# Altium footprint library SamacSys.PcbLib: 89 footprints (part 5 of 6)
Each footprint in its own frame and in the unit in brackets; x right, y up, seen from the top. Pads: shape width x height; smd on the part's side, far side on the other; paste and mask are expansions set on the pad; w line width, h text height; cw(c..) or ccw(c..) is an arc to the next point about the centre after c.
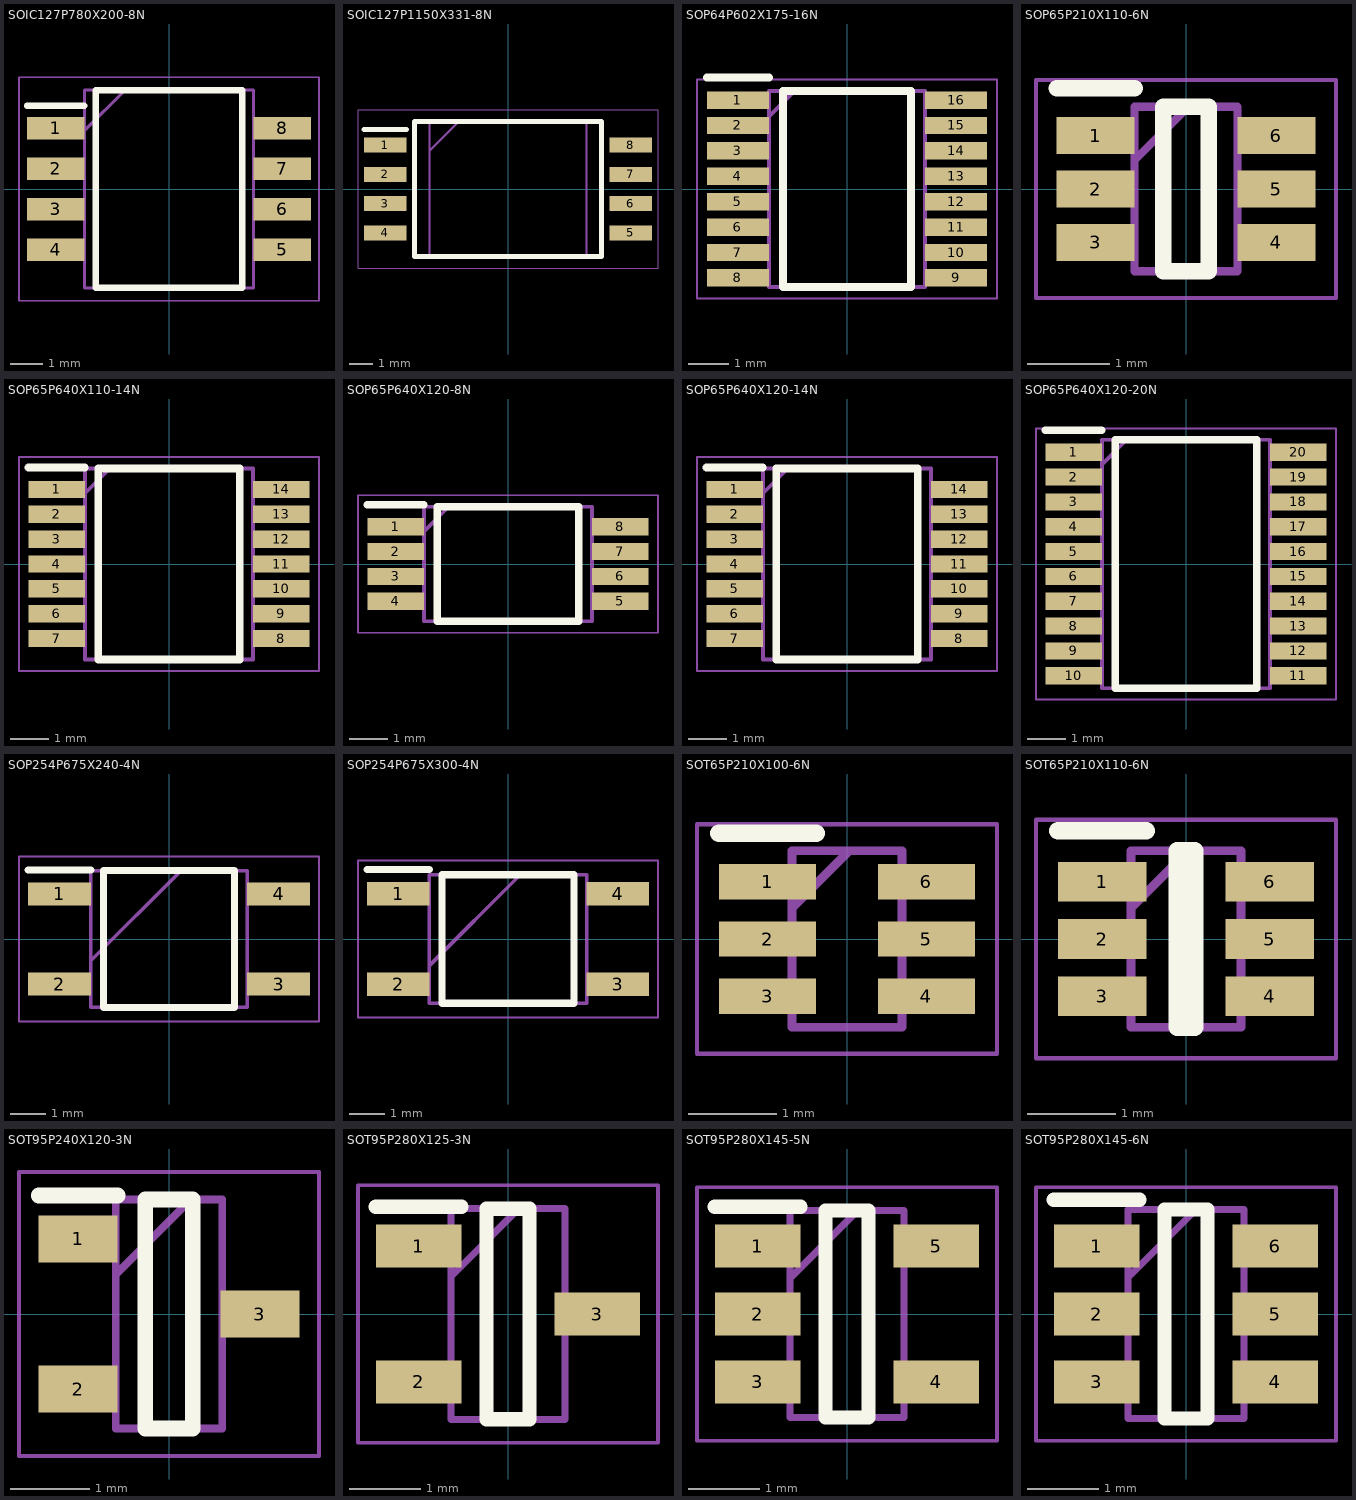
[diagram p4: the footprints below, top view; thin cyan lines are the x and y axes]

## SOIC127P780X200-8N [mm]
pads (8):
  rect 1.8x0.7 smd: 1(-3.55,1.905) 2(-3.55,0.635) 3(-3.55,-0.635) 4(-3.55,-1.905) 5(3.55,-1.905) 6(3.55,-0.635) 7(3.55,0.635) 8(3.55,1.905)
Top Overlay:
  lines w0.2: -4.45,2.605 -2.65,2.605 ; -2.3,-3.1 -2.3,3.1 2.3,3.1 2.3,-3.1 -2.3,-3.1
Mechanical 13:
  lines w0.1: -2.65,1.83 -1.38,3.1 ; -2.65,-3.1 -2.65,3.1 2.65,3.1 2.65,-3.1 -2.65,-3.1
Mechanical 15:
  lines w0.05: -4.7,-3.5 -4.7,3.5 4.7,3.5 4.7,-3.5 -4.7,-3.5
3D body "LM393PS.stp": height 4.21, standoff -3.37, extent -4.102,-4.635 4.102,4.635

## SOIC127P1150X331-8N [mm]
pads (8):
  rect 1.85x0.65 smd: 1(-5.325,1.905) 2(-5.325,0.635) 3(-5.325,-0.635) 4(-5.325,-1.905) 5(5.325,-1.905) 6(5.325,-0.635) 7(5.325,0.635) 8(5.325,1.905)
Top Overlay:
  lines w0.2: -6.25,2.58 -4.4,2.58 ; -4.05,-2.925 -4.05,2.925 4.05,2.925 4.05,-2.925 -4.05,-2.925
Mechanical 13:
  lines w0.1: -3.404,1.655 -2.134,2.925 ; -3.404,-2.925 -3.404,2.925 3.404,2.925 3.404,-2.925 -3.404,-2.925
Mechanical 15:
  lines w0.05: -6.5,-3.425 -6.5,3.425 6.5,3.425 6.5,-3.425 -6.5,-3.425
3D body "ACPL-C79B-500E.stp": height 3.31, standoff 0, extent -5.75,-2.925 5.75,2.925

## SOP64P602X175-16N [mm]
pads (16):
  rect 1.55x0.435 smd: 1(-2.725,2.222) 2(-2.725,1.588) 3(-2.725,0.952) 4(-2.725,0.318) 5(-2.725,-0.318) 6(-2.725,-0.952) 7(-2.725,-1.588) 8(-2.725,-2.222) 9(2.725,-2.222) 10(2.725,-1.588) 11(2.725,-0.952) 12(2.725,-0.318) 13(2.725,0.318) 14(2.725,0.952) 15(2.725,1.588) 16(2.725,2.222)
Top Overlay:
  lines w0.2: -3.5,2.79 -1.95,2.79 ; -1.6,-2.445 -1.6,2.445 1.6,2.445 1.6,-2.445 -1.6,-2.445
Mechanical 13:
  lines w0.1: -1.95,1.81 -1.315,2.445 ; -1.95,-2.445 -1.95,2.445 1.95,2.445 1.95,-2.445 -1.95,-2.445
Mechanical 15:
  lines w0.05: -3.75,-2.74 -3.75,2.74 3.75,2.74 3.75,-2.74 -3.75,-2.74
3D body "MAX1239EEE+.stp": height 1.75, standoff 0, extent -3.01,-2.445 3.01,2.445

## SOP65P210X110-6N [mm]
pads (6):
  rect 0.95x0.45 smd: 1(-1.1,0.65) 2(-1.1,0) 3(-1.1,-0.65) 4(1.1,-0.65) 5(1.1,0) 6(1.1,0.65)
Top Overlay:
  lines w0.2: -1.575,1.225 -0.625,1.225 ; -0.275,-1 -0.275,1 0.275,1 0.275,-1 -0.275,-1
Mechanical 13:
  lines w0.1: -0.625,0.35 0.025,1 ; -0.625,-1 -0.625,1 0.625,1 0.625,-1 -0.625,-1
Mechanical 15:
  lines w0.05: -1.825,-1.325 -1.825,1.325 1.825,1.325 1.825,-1.325 -1.825,-1.325
3D body "SN74LVC2G17DCKR.stp": height 1.1, standoff 0, extent -1.05,-1 1.05,1

## SOP65P640X110-14N [mm]
pads (14):
  rect 1.475x0.45 smd: 1(-2.938,1.95) 2(-2.938,1.3) 3(-2.938,0.65) 4(-2.938,0) 5(-2.938,-0.65) 6(-2.938,-1.3) 7(-2.938,-1.95) 8(2.938,-1.95) 9(2.938,-1.3) 10(2.938,-0.65) 11(2.938,0) 12(2.938,0.65) 13(2.938,1.3) 14(2.938,1.95)
Top Overlay:
  lines w0.2: -3.675,2.525 -2.2,2.525 ; -1.85,-2.5 -1.85,2.5 1.85,2.5 1.85,-2.5 -1.85,-2.5
Mechanical 13:
  lines w0.1: -2.2,1.85 -1.55,2.5 ; -2.2,-2.5 -2.2,2.5 2.2,2.5 2.2,-2.5 -2.2,-2.5
Mechanical 15:
  lines w0.05: -3.925,-2.8 -3.925,2.8 3.925,2.8 3.925,-2.8 -3.925,-2.8
3D body "74LVC86APW,112.stp": height 1.1, standoff 0, extent -3.2,-2.5 3.2,2.5

## SOP65P640X120-8N [mm]
pads (8):
  rect 1.475x0.45 smd: 1(-2.938,0.975) 2(-2.938,0.325) 3(-2.938,-0.325) 4(-2.938,-0.975) 5(2.938,-0.975) 6(2.938,-0.325) 7(2.938,0.325) 8(2.938,0.975)
Top Overlay:
  lines w0.2: -3.675,1.55 -2.2,1.55 ; -1.85,-1.5 -1.85,1.5 1.85,1.5 1.85,-1.5 -1.85,-1.5
Mechanical 13:
  lines w0.1: -2.2,0.85 -1.55,1.5 ; -2.2,-1.5 -2.2,1.5 2.2,1.5 2.2,-1.5 -2.2,-1.5
Mechanical 15:
  lines w0.05: -3.925,-1.8 -3.925,1.8 3.925,1.8 3.925,-1.8 -3.925,-1.8
3D body "M95512-DRDW3TP_K.stp": height 1.2, standoff 0, extent -3.2,-1.5 3.2,1.5

## SOP65P640X120-14N [mm]
pads (14):
  rect 1.475x0.45 smd: 1(-2.938,1.95) 2(-2.938,1.3) 3(-2.938,0.65) 4(-2.938,0) 5(-2.938,-0.65) 6(-2.938,-1.3) 7(-2.938,-1.95) 8(2.938,-1.95) 9(2.938,-1.3) 10(2.938,-0.65) 11(2.938,0) 12(2.938,0.65) 13(2.938,1.3) 14(2.938,1.95)
Top Overlay:
  lines w0.2: -3.675,2.525 -2.2,2.525 ; -1.85,-2.5 -1.85,2.5 1.85,2.5 1.85,-2.5 -1.85,-2.5
Mechanical 13:
  lines w0.1: -2.2,1.85 -1.55,2.5 ; -2.2,-2.5 -2.2,2.5 2.2,2.5 2.2,-2.5 -2.2,-2.5
Mechanical 15:
  lines w0.05: -3.925,-2.8 -3.925,2.8 3.925,2.8 3.925,-2.8 -3.925,-2.8
3D body "SN74LV08APWRE4.stp": height 1.13, standoff 0, extent -3.2,-2.5 3.2,2.5

## SOP65P640X120-20N [mm]
pads (20):
  rect 1.475x0.45 smd: 1(-2.938,2.925) 2(-2.938,2.275) 3(-2.938,1.625) 4(-2.938,0.975) 5(-2.938,0.325) 6(-2.938,-0.325) 7(-2.938,-0.975) 8(-2.938,-1.625) 9(-2.938,-2.275) 10(-2.938,-2.925) 11(2.938,-2.925) 12(2.938,-2.275) 13(2.938,-1.625) 14(2.938,-0.975) 15(2.938,-0.325) 16(2.938,0.325) 17(2.938,0.975) 18(2.938,1.625) 19(2.938,2.275) 20(2.938,2.925)
Top Overlay:
  lines w0.2: -3.675,3.5 -2.2,3.5 ; -1.85,-3.25 -1.85,3.25 1.85,3.25 1.85,-3.25 -1.85,-3.25
Mechanical 13:
  lines w0.1: -2.2,2.6 -1.55,3.25 ; -2.2,-3.25 -2.2,3.25 2.2,3.25 2.2,-3.25 -2.2,-3.25
Mechanical 15:
  lines w0.05: -3.925,-3.55 -3.925,3.55 3.925,3.55 3.925,-3.55 -3.925,-3.55
3D body "SN74ACT245PWR.stp": height 1.13, standoff 0, extent -3.2,-3.25 3.2,3.25

## SOP254P675X240-4N [mm]
pads (4):
  rect 1.775x0.65 smd: 1(-3.088,1.27) 2(-3.088,-1.27) 3(3.088,-1.27) 4(3.088,1.27)
Top Overlay:
  lines w0.2: -3.975,1.945 -2.2,1.945 ; -1.85,-1.925 -1.85,1.925 1.85,1.925 1.85,-1.925 -1.85,-1.925
Mechanical 13:
  lines w0.1: -2.2,-0.615 0.34,1.925 ; -2.2,-1.925 -2.2,1.925 2.2,1.925 2.2,-1.925 -2.2,-1.925
Mechanical 15:
  lines w0.05: -4.225,-2.325 -4.225,2.325 4.225,2.325 4.225,-2.325 -4.225,-2.325
3D body "LTV-352T.stp": height 2.4, standoff 0, extent -3.375,-1.925 3.375,1.925

## SOP254P675X300-4N [mm]
pads (4):
  rect 1.75x0.65 smd: 1(-3.075,1.27) 2(-3.075,-1.27) 3(3.075,-1.27) 4(3.075,1.27)
Top Overlay:
  lines w0.2: -3.95,1.945 -2.2,1.945 ; -1.85,-1.8 -1.85,1.8 1.85,1.8 1.85,-1.8 -1.85,-1.8
Mechanical 13:
  lines w0.1: -2.2,-0.74 0.34,1.8 ; -2.2,-1.8 -2.2,1.8 2.2,1.8 2.2,-1.8 -2.2,-1.8
Mechanical 15:
  lines w0.05: -4.2,-2.2 -4.2,2.2 4.2,2.2 4.2,-2.2 -4.2,-2.2
3D body "PC367N2J000F.stp": height 3, standoff 0, extent -3.5,-1.8 3.5,1.8

## SOT65P210X100-6N [mm]
pads (6):
  rect 1.1x0.4 smd: 1(-0.9,0.65) 2(-0.9,0) 3(-0.9,-0.65) 4(0.9,-0.65) 5(0.9,0) 6(0.9,0.65)
Top Overlay:
  lines w0.2: -1.45,1.2 -0.35,1.2
Mechanical 13:
  lines w0.1: -0.625,0.35 0.025,1 ; -0.625,-1 -0.625,1 0.625,1 0.625,-1 -0.625,-1
Mechanical 15:
  lines w0.05: -1.7,-1.3 -1.7,1.3 1.7,1.3 1.7,-1.3 -1.7,-1.3
3D body "UMZ1NTR.stp": height 1, standoff 0, extent -1.05,-0.98 1.05,1.02

## SOT65P210X110-6N [mm]
pads (6):
  rect 1x0.45 smd: 1(-0.95,0.65) 2(-0.95,0) 3(-0.95,-0.65) 4(0.95,-0.65) 5(0.95,0) 6(0.95,0.65)
Top Overlay:
  lines w0.2: -1.45,1.225 -0.45,1.225 ; -0.1,-1 -0.1,1 0.1,1 0.1,-1 -0.1,-1
Mechanical 13:
  lines w0.1: -0.625,0.35 0.025,1 ; -0.625,-1 -0.625,1 0.625,1 0.625,-1 -0.625,-1
Mechanical 15:
  lines w0.05: -1.7,-1.35 -1.7,1.35 1.7,1.35 1.7,-1.35 -1.7,-1.35
3D body "PUMH18,115.stp": height 0.95, standoff 0, extent -1.052,-1.061 1.048,1.089

## SOT95P240X120-3N [mm]
pads (3):
  rect 1x0.6 smd: 1(-1.15,0.95) 2(-1.15,-0.95) 3(1.15,0)
Top Overlay:
  lines w0.2: -1.65,1.5 -0.65,1.5 ; -0.3,-1.45 -0.3,1.45 0.3,1.45 0.3,-1.45 -0.3,-1.45
Mechanical 13:
  lines w0.1: -0.675,0.5 0.275,1.45 ; -0.675,-1.45 -0.675,1.45 0.675,1.45 0.675,-1.45 -0.675,-1.45
Mechanical 15:
  lines w0.05: -1.9,-1.8 -1.9,1.8 1.9,1.8 1.9,-1.8 -1.9,-1.8
3D body "SST2222AT116.stp": height 1, standoff 0, extent -1.2,-1.447 1.2,1.453

## SOT95P280X125-3N [mm]
pads (3):
  rect 1.2x0.6 smd: 1(-1.25,0.95) 2(-1.25,-0.95) 3(1.25,0)
Top Overlay:
  lines w0.2: -1.85,1.5 -0.65,1.5 ; -0.3,-1.475 -0.3,1.475 0.3,1.475 0.3,-1.475 -0.3,-1.475
Mechanical 13:
  lines w0.1: -0.8,0.525 0.15,1.475 ; -0.8,-1.475 -0.8,1.475 0.8,1.475 0.8,-1.475 -0.8,-1.475
Mechanical 15:
  lines w0.05: -2.1,-1.8 -2.1,1.8 2.1,1.8 2.1,-1.8 -2.1,-1.8
3D body "AO3401A.stp": height 1.25, standoff 0, extent -1.4,-1.475 1.4,1.475

## SOT95P280X145-5N [mm]
pads (5):
  rect 1.2x0.6 smd: 1(-1.25,0.95) 2(-1.25,0) 3(-1.25,-0.95) 4(1.25,-0.95) 5(1.25,0.95)
Top Overlay:
  lines w0.2: -1.85,1.5 -0.65,1.5 ; -0.3,-1.45 -0.3,1.45 0.3,1.45 0.3,-1.45 -0.3,-1.45
Mechanical 13:
  lines w0.1: -0.8,0.5 0.15,1.45 ; -0.8,-1.45 -0.8,1.45 0.8,1.45 0.8,-1.45 -0.8,-1.45
Mechanical 15:
  lines w0.05: -2.1,-1.775 -2.1,1.775 2.1,1.775 2.1,-1.775 -2.1,-1.775
3D body "TPS3823A-33DBVR.stp": height 1.2, standoff 0, extent -1.4,-1.45 1.4,1.45

## SOT95P280X145-6N [mm]
pads (6):
  rect 1.2x0.6 smd: 1(-1.25,0.95) 2(-1.25,0) 3(-1.25,-0.95) 4(1.25,-0.95) 5(1.25,0) 6(1.25,0.95)
Top Overlay:
  lines w0.2: -1.85,1.6 -0.65,1.6 ; -0.3,-1.462 -0.3,1.462 0.3,1.462 0.3,-1.462 -0.3,-1.462
Mechanical 13:
  lines w0.1: -0.812,0.512 0.138,1.462 ; -0.812,-1.462 -0.812,1.462 0.812,1.462 0.812,-1.462 -0.812,-1.462
Mechanical 15:
  lines w0.05: -2.1,-1.775 -2.1,1.775 2.1,1.775 2.1,-1.775 -2.1,-1.775
3D body "USBLC6-2SC6.stp": height 1.45, standoff 0, extent -1.4,-1.462 1.4,1.462